# EAGLE library part TLV493DA1B6HTSA2 (library Armature_joint)
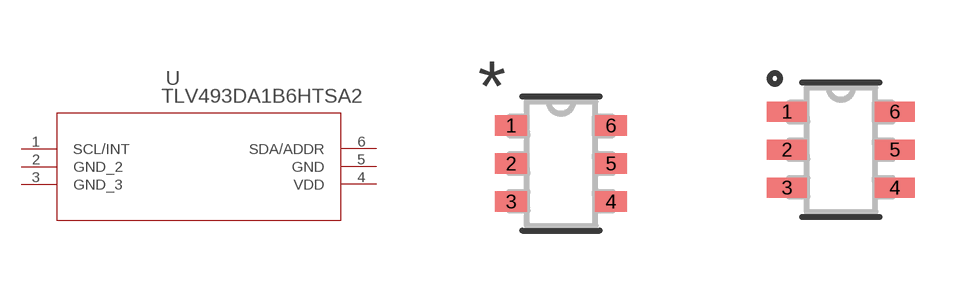
[diagram p0: symbol with the pads of PG-TSOP6-6-5_INF; footprints PG-TSOP6-6-5_INF, PG-TSOP6-6-5_INF-M]

Designator prefix U

## TLV493DA1B6HTSA2 (BUILT_BY: EMA_Justin; COPYRIGHT: Copyright (C) 2018 Accelerated Designs. All rights reserved; MANUFACTURER_PART_NUMBER: TLV493DA1B6HTSA2; SOURCELIBRARY: Infineon_2020-05-11; VENDOR: Infineon)  [PG-TSOP6-6-5_INF]
1  SCL/INT  in
2  GND_2  pas
3  GND_3  pas
4  VDD  pwr
5  GND  pas
6  SDA/ADDR

## TLV493DA1B6HTSA2PG-TSOP6-6-5_INF-M (BUILT_BY: EMA_Justin; COPYRIGHT: Copyright (C) 2018 Accelerated Designs. All rights reserved; MANUFACTURER_PART_NUMBER: TLV493DA1B6HTSA2; SOURCELIBRARY: Infineon_2020-05-11; VENDOR: Infineon)  [PG-TSOP6-6-5_INF-M]
Pads as for PG-TSOP6-6-5_INF

## TLV493DA1B6HTSA2PG-TSOP6-6-5_INF-L (BUILT_BY: EMA_Justin; COPYRIGHT: Copyright (C) 2018 Accelerated Designs. All rights reserved; MANUFACTURER_PART_NUMBER: TLV493DA1B6HTSA2; SOURCELIBRARY: Infineon_2020-05-11; VENDOR: Infineon)  [PG-TSOP6-6-5_INF-L]
Pads as for PG-TSOP6-6-5_INF

## Footprint PG-TSOP6-6-5_INF (pad centres in mm)
smd 0.794 x 0.507: 1 -1.248,0.95; 2 -1.248,0; 3 -1.248,-0.95; 4 1.248,-0.95; 5 1.248,0; 6 1.248,0.95

## Footprint PG-TSOP6-6-5_INF-M (pad centres in mm)
smd 0.995 x 0.507: 1 -1.348,0.95; 2 -1.348,0; 3 -1.348,-0.95; 4 1.348,-0.95; 5 1.348,0; 6 1.348,0.95

## Footprint PG-TSOP6-6-5_INF-L (pad centres in mm)
smd 0.595 x 0.457: 1 -1.148,0.95; 2 -1.148,0; 3 -1.148,-0.95; 4 1.148,-0.95; 5 1.148,0; 6 1.148,0.95